# EAGLE library part SN74LVC2G14 (library lpatiny)
Dual schmitt trigger INVERTER
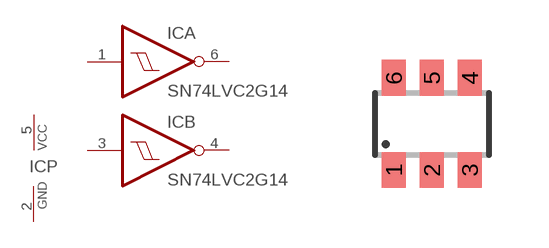
[diagram p16: symbol with the pads of SOT23-6; footprint SOT23-6]

Designator prefix IC; gates A=7414 B=7414 P=PWRN-1

## SN74LVC2G14  [SOT23-6]
1  A:I  in
2  P:GND  pwr
3  B:I  in
4  B:O  out
5  P:VCC  pwr
6  A:O  out

## Footprint SOT23-6 (pad centres in mm)
Small Outline Transistor 6 lead
smd 0.6 x 0.9: 1 -0.95,-1.15; 2 0,-1.15; 3 0.95,-1.15; 4 0.95,1.15; 5 0,1.15; 6 -0.95,1.15